# Altium schematic symbol library AdcPmod.SchLib: 13 symbols
Pins are listed as number, name and electrical type; pins without a type are passive.

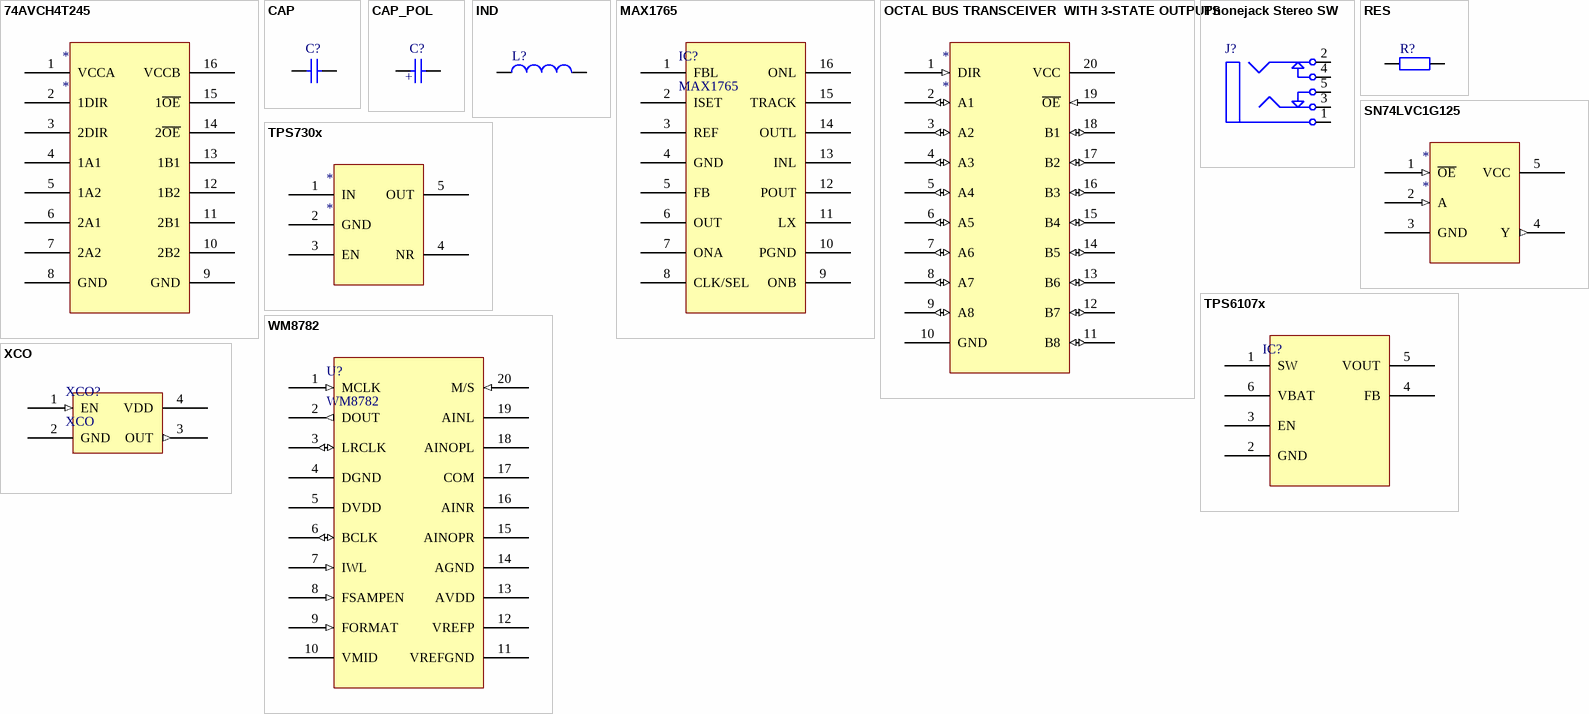
[diagram p0: symbols 74AVCH4T245 to XCO]

## 74AVCH4T245
designator *
footprint TSSOP16 (SOP, 16-Leads, Body 5,00x4,40mm, Pitch 0,65mm, IPC Low Density)
pins: 1 VCCA, 2 1DIR, 3 2DIR, 4 1A1, 5 1A2, 6 2A1, 7 2A2, 8 GND, 9 GND, 10 2B2, 11 2B1, 12 1B2, 13 1B1, 14 2~{OE}, 15 1~{OE}, 16 VCCB

## CAP
designator C?
Capacitor
footprint CAP0805 (Chip Capacitor, 2-Leads, Body 2,00x1,25mm, IPC Low Density)
footprint CAP1206 (HS) (Chip Capacitor, 2-Leads, Body 3,20x1,60mm, IPC Low Density)
pins: 1, 2

## CAP_POL
designator C?
Capacitor Polarized
footprint CAP EL SMD Dia. 5mm (Aluminum Electrolytic Capacitor, Body 5,30x5,30x5,80mm, IPC Low Density)
footprint CAP_POL1206 (Chip Tantalum Capacitor, 2-Leads, Body 3,20x1,60mm, IPC Low Density)
pins: 1, 2
text: +

## IND
designator L?
Inductor
footprint IND806 (Chip Inductor, 2-Leads, Body 2,00x1,60mm, IPC Low Density)
footprint IND1206 (HS) (Chip Inductor, 2-Leads, Body 3,20x1,60mm, IPC Low Density)
pins: 1, 2

## MAX1765
designator IC?
footprint QSOP16 (Maxim) (SOP, 16-Leads, Body 4,89x3,90mm, Pitch 0,64mm, IPC Low Density)
pins: 1 FBL, 2 ISET, 3 REF, 4 GND, 5 FB, 6 OUT, 7 ONA, 8 CLK/SEL, 9 ONB, 10 PGND, 11 LX, 12 POUT, 13 INL, 14 OUTL, 15 TRACK, 16 ONL, 17 EP (power) hidden to 4,5

## OCTAL BUS TRANSCEIVER  WITH 3-STATE OUTPUTS
designator *
footprint SSOP16 5.3mm (SOP, 20-Leads, Body 7,20x5,30mm, Pitch 0,65mm, IPC Low Density)
pins: 1 DIR (in), 2 A1 (io), 3 A2 (io), 4 A3 (io), 5 A4 (io), 6 A5 (io), 7 A6 (io), 8 A7 (io), 9 A8 (io), 10 GND (power), 11 B8 (io), 12 B7 (io), 13 B6 (io), 14 B5 (io), 15 B4 (io), 16 B3 (io), 17 B2 (io), 18 B1 (io), 19 ~{OE} (in), 20 VCC (power)

## Phonejack Stereo SW
designator J?
3-Conductor Jack with 2 break contacts (normals) and 2 auxiliary make contacts; Published: 5-Jan-2004; LatestRevisionDate: 17-Dec-2003; LatestRevisionNote: PCB Footprint replaced.; DatasheetDocument: 07-Mar-2000; Publisher: Altium Limited; ComponentLink1Description: Manufacturer Link; ComponentLink1URL: http://domino.kycon.com/internet/Products.html
footprint ST-3150-5N (Connector; Stereo Jack, 3.5mm, 5 Position)
signal-integrity model Connector
footprint Phone Jack Mini Stereo SJ1 - 354X; pin to pad 1A>1 1B>1 2A>2 2B>2 3A>3 3B>3 4A>4 4B>4 5A>5 5B>5
pins: 1, 1A, 1B, 2, 2A, 2B, 3, 3A, 3B, 4, 4A, 4B, 5, 5A, 5B

## RES
designator R?
Resistor
footprint RES0805 (Chip Resistor, 2-Leads, Body 2,00x1,25mm, IPC Low Density)
footprint RES1206 (HS) (Chip Resistor, 2-Leads, Body 3,20x1,60mm, IPC Low Density)
pins: 1, 2

## SN74LVC1G125
designator *
footprint SC70 (TI) (SC70, 5-Leads, Body 2,00x2,80mm, Pitch 0,65mm, IPC Low Density)
pins: 1 ~{OE} (in), 2 A (in), 3 GND (power), 4 Y (out), 5 VCC (power)

## TPS730x
designator *
footprint SOT23 (5) (DBVTI) (SOT23, 5-Leads, Body 2,90x2,80mm, Pitch 0,95mm, IPC Low Density)
pins: 1 IN, 2 GND, 3 EN, 4 NR, 5 OUT

## TPS6107x
designator IC?  (value not drawn)
Adjustable, 600-mA Switch, 90% Efficient PFM/PWM Boost Converter
footprint SOT23 (DDC TI) (SOT23, 6-Leads, Body 2,90x2,80mm, Pitch 0,95mm, IPC Low Density)
pins: 1 SW, 2 GND, 3 EN, 4 FB, 5 VOUT, 6 VBAT

## WM8782
designator U?
24-Bit, 192 kHz Stereo ADC; Manufacturer: Cirrus Logic; Mfr. Part No.: WM8782SEDS; Suplier Part No.: 238-WM8782SEDS; Supplier: Mouser
footprint SSOP16 5.3mm (SOP, 20-Leads, Body 7,20x5,30mm, Pitch 0,65mm, IPC Low Density)
pins: 1 MCLK (in) "Master Clock", 2 DOUT (out) "Digital Audio Data", 3 LRCLK (io) "Audio Interface Left / Right Clock", 4 DGND (power) "Digital Negative Supply", 5 DVDD (power) "Digital Positive Supply", 6 BCLK (io) "Audio Interface Bit Clock", 7 IWL (in) "Word Length", 8 FSAMPEN (in) "Sampling Rate", 9 FORMAT (in) "Audio Mode", 10 VMID "Mid rail decoupling C", 11 VREFGND (power) "Negative Supply and Substrate Connection", 12 VREFP "Positive Reference Voltage Decoupling", 13 AVDD (power) "Analog Positive Supply", 14 AGND (power) "Analog Negative Supply", 15 AINOPR "R Ch. Opamp Output", 16 AINR "R Ch. Input", 17 COM "Common Mode High Impedance Input", 18 AINOPL "L Ch. Opamp Output", 19 AINL "L Ch. Input", 20 M/S (in) "Interface Mode Select"

## XCO
designator XCO?
footprint XCO-7mmx5mm (Chip Array, Concave, 6-Leads, Pitch 2,54mm,  Body 7,50x5,20mm,  IPC Low Density)
footprint XCO 5x3.2mm (HS) (XCO, Concave, 4-Leads, Pitch 2,54mm,  Body 5,00x3,20mm,  IPC Low Density)
pins: 1 EN (in), 2 GND (power), 3 OUT (out), 4 VDD (power)